# EAGLE library part SN74LVC2G14DCKR (library neels)
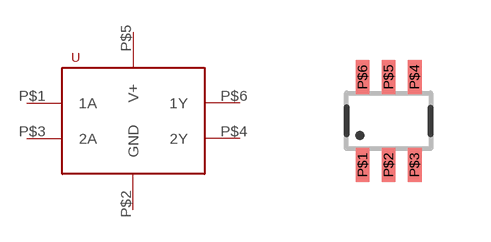
[diagram p7: symbol with the pads of DCK; footprint DCK]

Designator prefix -

## SN74LVC2G14DCKR  [DCK]
P$1  1A
P$2  GND
P$3  2A
P$4  2Y
P$5  V+
P$6  1Y

## Footprint DCK (pad centres in mm)
smd 0.35 x 0.85: P$1 -0.65,-1.1; P$2 0,-1.1; P$3 0.65,-1.1; P$4 0.65,1.1; P$5 0,1.1; P$6 -0.65,1.1